# Altium schematic symbol library HR961160C.SchLib: 1 symbol
Pins are listed as number, name and electrical type; pins without a type are passive.

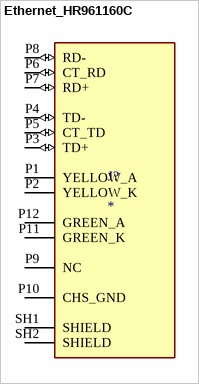
[diagram p0: symbol Ethernet_HR961160C]

## Ethernet_HR961160C
designator J?
1x1 Port Tab-UP Surface Mount RJ45 Connector with Magnetics Module and LEDfor 10/100Base-TX NIC Applications.; MF: HanRun; MP: HR961160C; SnapEDA_Link: https://www.snapeda.com/parts/HR961160C/HanRun/view-part/?ref=snap; Package: Package; Value: *; Check_prices: https://www.snapeda.com/parts/HR961160C/HanRun/view-part/?ref=eda
footprint HANRUN_HR961160C
pins: P1 YELLOW_A, P2 YELLOW_K, P3 TD+ (io), P4 TD- (io), P5 CT_TD (io), P6 CT_RD (io), P7 RD+ (io), P8 RD- (io), P9 NC, P10 CHS_GND (power), P11 GREEN_K, P12 GREEN_A, SH1 SHIELD, SH2 SHIELD